# Altium integrated library C1206C684K5RACTU.IntLib: 1 symbol
Pins are listed as number, name and electrical type; pins without a type are passive.

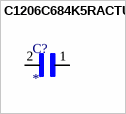
[diagram p0: symbol C1206C684K5RACTU]

## C1206C684K5RACTU
designator C?
.68UF 50V 10% 1206; MP: C1206C684K5RACTU; Package: None; Price: None; Value: *; Availability: Unavailable
footprint CAPC3216X110N
pins: 1, 2